# Altium schematic symbol library Audio Prj_1.SCHLIB: 74 symbols
Pins are listed as number, name and electrical type; pins without a type are passive.

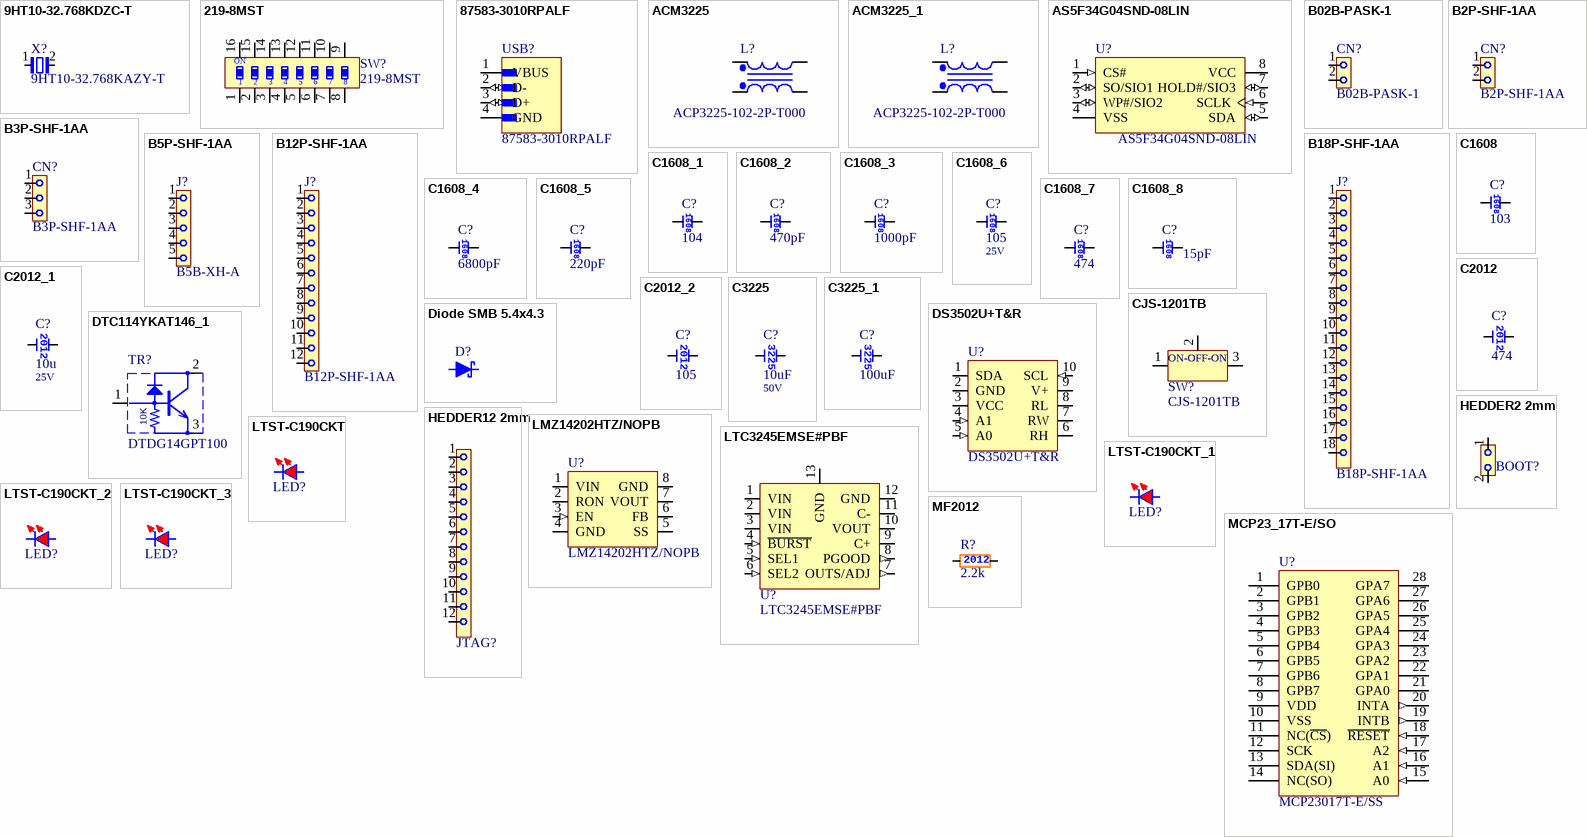
[diagram p0: symbols 9HT10-32.768KDZC-T to MF2012]

## 9HT10-32.768KDZC-T
designator X?, comment 9HT10-32.768KAZY-T
CRYSTAL 32kHz 3.2mm x 1.5mm; Vendor: TXC CORPORATION; Capacitance: 9pF; Tolerance: 20ppm; ESR: 70k
footprint 9HT10 (CRYSTAL 3.2mm x 1.5mm)
pins: 1, 2

## 219-8MST
designator SW?
SMD DIP Switch; Vendor: CTS Electrocomponents
footprint 219-8MST (Footprint not found)
pins: 1, 2, 3, 4, 5, 6, 7, 8, 9, 10, 11, 12, 13, 14, 15, 16
text: ON

## 87583-3010RPALF
designator USB?
CONN RCPT USB2.0 TYPEA 4P SMD RA; Vendor: Amphenol ICC (FCI)
footprint USB_2.0 (87583-3010RPALF)
pins: 1 VBUS (power), 2 D- (io), 3 D+ (io), 4 GND (power)

## ACM3225
designator L?, comment ACP3225-102-2P-T000
コモンモード,1A,4ピン; Vendor: TDK
footprint ACM3225
pins: 1 Sec+, 2 Sec-, 3 Pri-, 4 Pri+

## ACM3225_1
designator L?, comment ACP3225-102-2P-T000
コモンモード,1A,4ピン; Vendor: TDK
footprint ACM3225
pins: 1 Sec+, 2 Sec-, 3 Pri-, 4 Pri+

## AS5F34G04SND-08LIN
designator U?
IC FLASH 4GBIT SPI/QUAD I/O 8LGA; Vendor: Alliance Memory, Inc.
footprint 8LGA(6x8)
pins: 1 CS# (in), 2 SO/SIO1 (io), 3 WP#/SIO2 (io), 4 VSS (power), 5 SDA (io), 6 SCLK (in), 7 HOLD#/SIO3 (io), 8 VCC (power)

## B02B-PASK-1
designator CN?
雄,ストレート,1列2ピン; Vendor: JST
footprint B02B-PASK-1
pins: 1, 2

## B2P-SHF-1AA
designator CN?
雄,ストレート,1列2ピン; Vendor: JST
footprint B2P-SHF-1AA
pins: 1, 2

## B3P-SHF-1AA
designator CN?
雄,ストレート,1列3ピン; Vendor: JST
footprint B3P-SHF-1AA (JST3ƒsƒ“ƒRƒlƒNƒ^)
pins: 1, 2, 3

## B5P-SHF-1AA
designator J?, comment B5B-XH-A
雄,ストレート,1列3ピン; Vendor: JST
footprint B5P-SHF-1AA (JST3ƒsƒ“ƒRƒlƒNƒ^)
pins: 1, 2, 3, 4, 5

## B12P-SHF-1AA
designator J?
雄,ストレート,1列12ピン PCB; Vendor: JST
footprint B12P-SHF-1AA (JST3ƒsƒ“ƒRƒlƒNƒ^)
pins: 1, 2, 3, 4, 5, 6, 7, 8, 9, 10, 11, 12

## B18P-SHF-1AA
designator J?
雄,ストレート,1列12ピン PCB; Vendor: JST
footprint B18P-SHF-1AA (JST3ƒsƒ“ƒRƒlƒNƒ^)
pins: 1, 2, 3, 4, 5, 6, 7, 8, 9, 10, 11, 12, 13, 14, 15, 16, 17, 18

## C1608
designator C?, comment Tag: 103  (hidden comment: GCD188R71H103KA01D)
セラコン1608サイズ; Vendor: Murata; Voltage: 50V
footprint C1608
pins: 1, 2
text: 1608

## C1608_1
designator C?, comment Tag: 104  (hidden comment: CGA3E2X7R1H104K080AA)
セラコン1608サイズ; Vendor: TDK; Voltage: 50V
footprint C1608
pins: 1, 2
text: 1608

## C1608_2
designator C?, comment Tag: 470pF  (hidden comment: GCM1885C2A471JA16D)
セラコン1608サイズ; Vendor: Murata; Voltage: 100V
footprint C1608
pins: 1, 2
text: 1608

## C1608_3
designator C?, comment Tag: 1000pF  (hidden comment: GCM1885C2A102JA16D)
セラコン1608サイズ; Vendor: Murata; Voltage: 100V
footprint C1608
pins: 1, 2
text: 1608

## C1608_4
designator C?, comment Tag: 6800pF  (hidden comment: GCM1885C2A682JA16D)
セラコン1608サイズ; Vendor: Murata; Voltage: 100V
footprint C1608
pins: 1, 2
text: 1608

## C1608_5
designator C?, comment Tag: 220pF  (hidden comment: GCM1885C2A221JA16D)
セラコン1608サイズ; Vendor: Murata; Voltage: 100V
footprint C1608
pins: 1, 2
text: 1608

## C1608_6
designator C?, comment Tag: 105  Voltage: 25V  (hidden comment: TMK107BJ105MA-T)
セラコン1608サイズ; Vendor: TaiyoYuden
footprint C1608
pins: 1, 2
text: 1608

## C1608_7
designator C?, comment Tag: 474  (hidden comment: UMK107B7474KA-TR)
セラコン1608サイズ; Vendor: TiyoYuden; Voltage: 25V
footprint C1608
pins: 1, 2
text: 1608

## C1608_8
designator C?, comment Tag: 15pF  (hidden comment: GCM1885C2A150FA16D)
セラコン1608サイズ; Vendor: Murata; Voltage: 100V
footprint C1608
pins: 1, 2
text: 1608

## C2012
designator C?, comment Tag: 474  (hidden comment: GRM21BR71H474MA88)
セラコン2012サイズ; Vendor: Murata; Voltage: 50V
footprint C2012
pins: 1, 2
text: 2012

## C2012_1
designator C?, comment Tag: 10u  Voltage: 25V  (hidden comment: TMK212BBJ106MG-T)
セラコン2012サイズ; Vendor: Murata
footprint C2012
pins: 1, 2
text: 2012

## C2012_2
designator C?, comment Tag: 105  (hidden comment: GRM21BR71C105KA01K)
セラコン2012サイズ; Vendor: Murata; Voltage: 16V
footprint C2012
pins: 1, 2
text: 2012

## C3225
designator C?, comment Tag: 10uF  Voltage: 50V  (hidden comment: UMK325C7106MM-T)
セラコン3225サイズ; Vendor: *
footprint C3225 (Footprint not found)
pins: 1, 2
text: 3225

## C3225_1
designator C?, comment Tag: 100uF  (hidden comment: EMK325ABJ107MM-T)
セラコン3225サイズ; Vendor: TaiyoYuden; Voltage: 50V
footprint C3225 (Footprint not found)
pins: 1, 2
text: 3225

## CJS-1201TB
designator SW?
SWITCH SLIDE SPDT 100MA 6V; Vendor: Nidec Copal Electronics
footprint Slide Switch SPDT (6x4.2mm(LxW))
pins: 1, 2, 3
text: ON-OFF-ON

## Diode SMB 5.4x4.3
designator D?, comment SIPS3150U  (value not drawn)
Schottky Rectifier; Vendor: STmicro; Voltage: 150V; Current: 3A
footprint DO-214AA (SMB)
pins: A, K

## DS3502U+T&R
designator U?
IC DGTL POT 10KOHM 128TAP 10UMAX; Vendor: Maxim Integrated
footprint MSOP10 (Shrink Small Outline; 10 Leads; Body Width 3 mm; Pitch 0.5 mm)
pins: 1 SDA (io), 2 GND (power), 3 VCC (power), 4 A1 (in), 5 A0 (in), 6 RH, 7 RW, 8 RL, 9 V+ (power), 10 SCL (in)

## DTC114YKAT146_1
designator TR?, comment DTDG14GPT100
NPN  TR 1A with  Resi; Vendor: ROHM ローム
footprint SOT-89-3 (SOT89, 3-Leads, Body 4.5x2.4 mm, Pitch 1.5mm, Lead Span 4.1mm)
pins: 1 IN, 2 GND, 3 OUT
text: 10K

## HEDDER2 2mm
designator BOOT?  (value not drawn)
雄,ストレート,1列2ピン; Vendor: JST
footprint HDR1X2 2mm
pins: 1, 2

## HEDDER12 2mm
designator JTAG?  (value not drawn)
Vendor: akiduki
footprint HDR1X12 2mm
pins: 1, 2, 3, 4, 5, 6, 7, 8, 9, 10, 11, 12

## LMZ14202HTZ/NOPB
designator U?
DC DC CONVERTER 5-30V; Vendor: Texas Instruments
footprint TO-PMOD-7 (0.40" L x 0.39" W  (10.2mm x 9.9mm))
pins: 1 VIN (power), 2 RON, 3 EN (in), 4 GND (power), 5 SS, 6 FB, 7 VOUT (power), 8 GND (power)

## LTC3245EMSE#PBF
designator U?
IC REG CHARG PUMP ADJ/PRG 12MSOP; Vendor: Analog Devices Inc.
footprint MSOP12 (Shrink Small Outline; 8 Leads; Body Width 3 mm; Pitch 0.65 mm)
pins: 1 VIN (power), 2 VIN (power), 3 VIN (power), 4 ~{BURST} (in), 5 SEL1 (in), 6 SEL2 (in), 7 OUTS/ADJ (out), 8 PGOOD (out), 9 C+, 10 VOUT (power), 11 C-, 12 GND (power), 13 GND (power)

## LTST-C190CKT
designator LED?, comment APT1608LSECK/J4-PRV  (value not drawn)
LED 1608 orange; Vendor: kingbright; Color: Orange
footprint LED1608
pins: A, K

## LTST-C190CKT_1
designator LED?, comment APT1608LSYCK/J3-PRV  (value not drawn)
LED 1608 yellow; Vendor: kingbright; Color: yellow
footprint LED1608
pins: A, K

## LTST-C190CKT_2
designator LED?, comment APT1608LZGCK  (value not drawn)
LED 1608 green; Vendor: kingbright; Color: green
footprint LED1608
pins: A, K

## LTST-C190CKT_3
designator LED?, comment APT1608LSECK/J3-PRV  (value not drawn)
LED 1608 RED; Vendor: kingbright; Color: Red
footprint LED1608
pins: A, K

## MCP23_17T-E/SO
designator U?, comment MCP23017T-E/SS
I/O Expander 16 SPI 10MHz 28-SOIC; Vendor: Microchip Technology
footprint SSOP28 (5.3mm Wide,0.65mm Pitch)
pins: 1 GPB0, 2 GPB1, 3 GPB2, 4 GPB3, 5 GPB4, 6 GPB5, 7 GPB6, 8 GPB7, 9 VDD (power), 10 VSS (power), 11 NC(~{CS}), 12 SCK, 13 SDA(SI), 14 NC(SO), 15 A0 (in), 16 A1 (in), 17 A2 (in), 18 ~{RESET} (in), 19 INTB (out), 20 INTA (out), 21 GPA0, 22 GPA1, 23 GPA2, 24 GPA3, 25 GPA4, 26 GPA5, 27 GPA6, 28 GPA7

## MF2012
designator R?, comment Tag: 2.2k  (hidden comment: ERJ-P08J222V)
薄膜チップ抵抗2012サイズ; Vendor: Panasonic
footprint R2012
pins: 1, 2
text: 2012

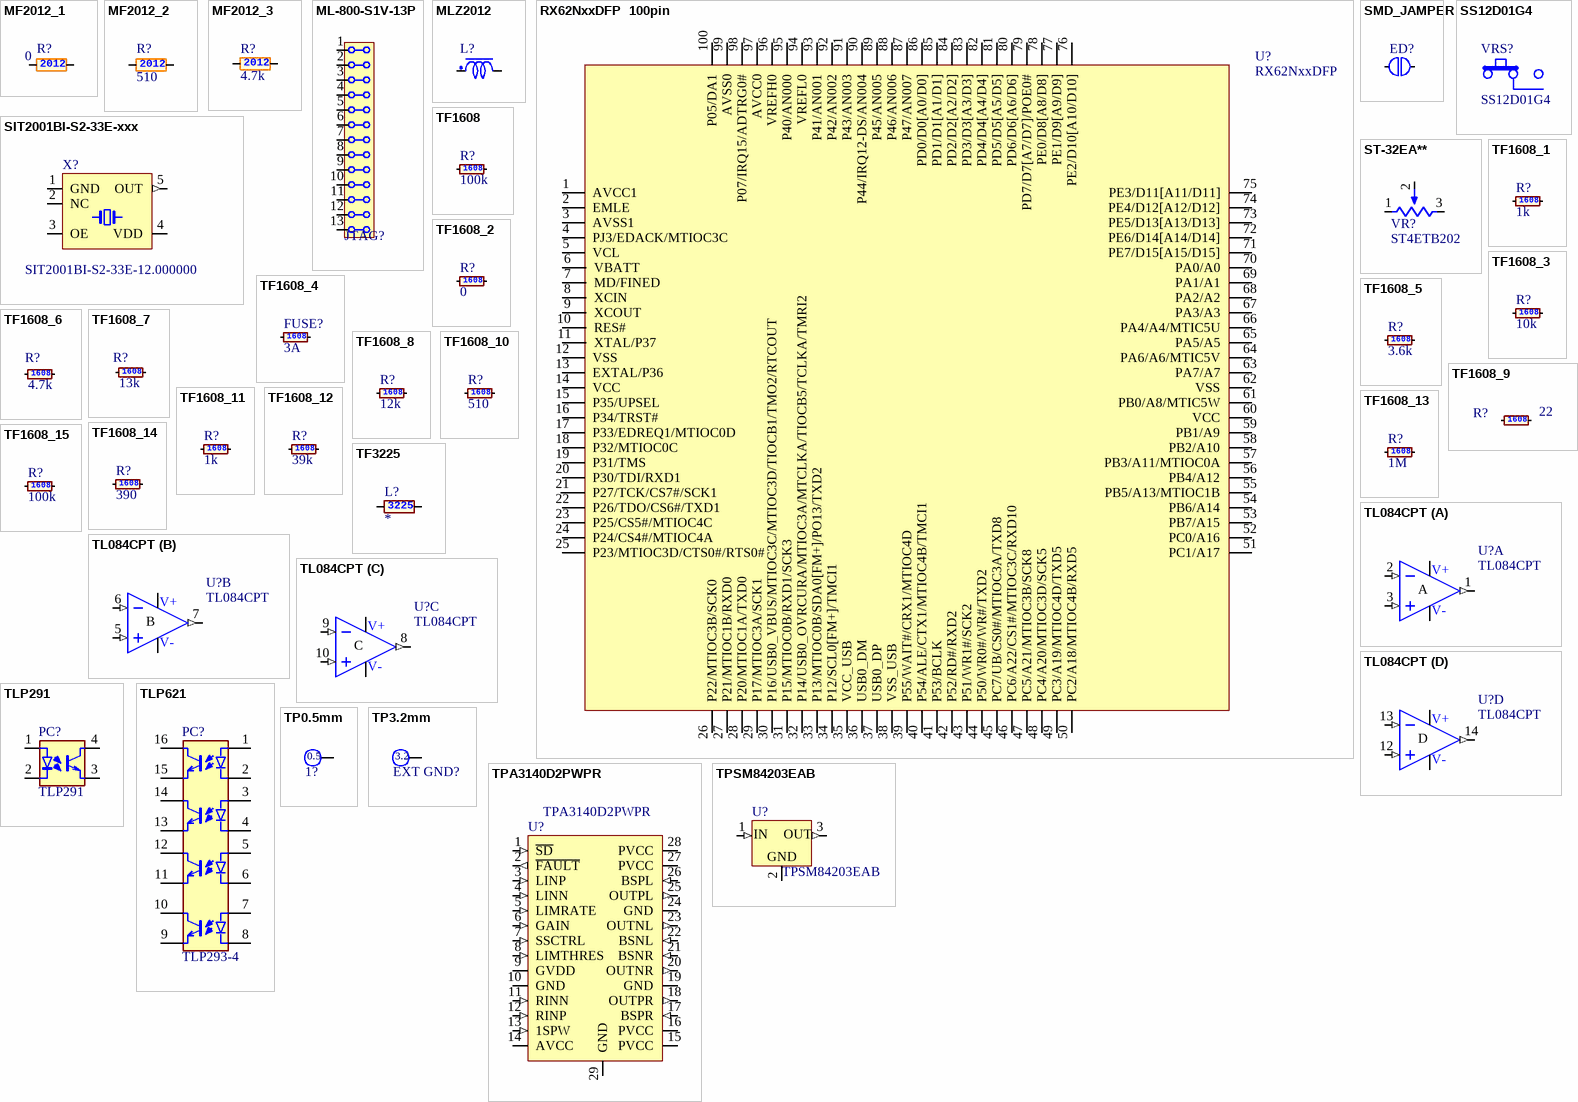
[diagram p1: symbols MF2012_1 to TPSM84203EAB]

## MF2012_1
designator R?, comment Tag: 0  (hidden comment: ERJ-6GEY0R00V)
薄膜チップ抵抗2012サイズ; Vendor: Panasonic
footprint R2012
pins: 1, 2
text: 2012

## MF2012_2
designator R?, comment Tag: 510  (hidden comment: ERJ-P08J511V)
薄膜チップ抵抗2012サイズ; Vendor: Panasonic
footprint R2012
pins: 1, 2
text: 2012

## MF2012_3
designator R?, comment Tag: 4.7k  (hidden comment: ERJ-P08J472V)
薄膜チップ抵抗2012サイズ; Vendor: Panasonic
footprint R2012
pins: 1, 2
text: 2012

## ML-800-S1V-13P
designator JTAG?, comment 5mm  (value not drawn)
ML-800-S1V-13P; Vendor: akiduki
footprint HDR1X12 2mm
pins: 1, 2, 3, 4, 5, 6, 7, 8, 9, 10, 11, 12, 13

## MLZ2012
designator L?, comment MLZ2012N101LT000  (value not drawn)
SMD Inductor 2012size; Vendor: TDK; Tag: 100uH
footprint R2012
pins: 1, 2

## RX62NxxDFP  100pin
designator U?, comment RX62NxxDFP
MCU; Manufactuer P/N: RX62N; Manufactuer: Renesas
footprint LQFP100 (Thin LFQFP, 100-Leads, Body 14x14mm, Pitch 0.5mm, IPC Medium Density)
pins: 1 AVCC1, 2 EMLE, 3 AVSS1, 4 PJ3/EDACK/MTIOC3C, 5 VCL, 6 VBATT, 7 MD/FINED, 8 XCIN, 9 XCOUT, 10 RES#, 11 XTAL/P37, 12 VSS, 13 EXTAL/P36, 14 VCC, 15 P35/UPSEL, 16 P34/TRST#, 17 P33/EDREQ1/MTIOC0D, 18 P32/MTIOC0C, 19 P31/TMS, 20 P30/TDI/RXD1, 21 P27/TCK/CS7#/SCK1, 22 P26/TDO/CS6#/TXD1, 23 P25/CS5#/MTIOC4C, 24 P24/CS4#/MTIOC4A, 25 P23/MTIOC3D/CTS0#/RTS0#, 26 P22/MTIOC3B/SCK0, 27 P21/MTIOC1B/RXD0, 28 P20/MTIOC1A/TXD0, 29 P17/MTIOC3A/SCK1, 30 P16/USB0_VBUS/MTIOC3C/MTIOC3D/TIOCB1/TMO2/RTCOUT, 31 P15/MTIOC0B/RXD1/SCK3, 32 P14/USB0_OVRCURA/MTIOC3A/MTCLKA/TIOCB5/TCLKA/TMRI2, 33 P13/MTIOC0B/SDA0[FM+]/PO13/TXD2, 34 P12/SCL0[FM+]/TMCI1, 35 VCC_USB, 36 USB0_DM, 37 USB0_DP, 38 VSS_USB, 39 P55/WAIT#/CRX1/MTIOC4D, 40 P54/ALE/CTX1/MTIOC4B/TMCI1, 41 P53/BCLK, 42 P52/RD#/RXD2, 43 P51/WR1#/SCK2, 44 P50/WR0#/WR#/TXD2, 45 PC7/UB/CS0#/MTIOC3A/TXD8, 46 PC6/A22/CS1#/MTIOC3C/RXD10, 47 PC5/A21/MTIOC3B/SCK8, 48 PC4/A20/MTIOC3D/SCK5, 49 PC3/A19/MTIOC4D/TXD5, 50 PC2/A18/MTIOC4B/RXD5, 51 PC1/A17, 52 PC0/A16, 53 PB7/A15, 54 PB6/A14, 55 PB5/A13/MTIOC1B, 56 PB4/A12, 57 PB3/A11/MTIOC0A, 58 PB2/A10, 59 PB1/A9, 60 VCC, 61 PB0/A8/MTIC5W, 62 VSS, 63 PA7/A7, 64 PA6/A6/MTIC5V, 65 PA5/A5, 66 PA4/A4/MTIC5U, 67 PA3/A3, 68 PA2/A2, 69 PA1/A1, 70 PA0/A0, 71 PE7/D15[A15/D15], 72 PE6/D14[A14/D14], 73 PE5/D13[A13/D13], 74 PE4/D12[A12/D12], 75 PE3/D11[A11/D11], 76 PE2/D10[A10/D10], 77 PE1/D9[A9/D9], 78 PE0/D8[A8/D8], 79 PD7/D7[A7/D7]/POE0#, 80 PD6/D6[A6/D6], 81 PD5/D5[A5/D5], 82 PD4/D4[A4/D4], 83 PD3/D3[A3/D3], 84 PD2/D2[A2/D2], 85 PD1/D1[A1/D1], 86 PD0/D0[A0/D0], 87 P47/AN007, 88 P46/AN006, 89 P45/AN005, 90 P44/IRQ12-DS/AN004, 91 P43/AN003, 92 P42/AN002, 93 P41/AN001, 94 VREFL0, 95 P40/AN000, 96 VREFH0, 97 AVCC0, 98 P07/IRQ15/ADTRG0#, 99 AVSS0, 100 P05/DA1
2 alternate drawings of the same symbol

## SIT2001BI-S2-33E-xxx
designator X?, comment SIT2001BI-S2-33E-12.000000
OSC MEMS ＳＯＴ－２３－５; Vendor: SiTime; Stability: 25ppm
footprint SOT-23-5
pins: 1 GND (power), 2 NC, 3 OE, 4 VDD (power), 5 OUT (out)

## SMD_JAMPER
designator ED?  (value not drawn)  (no BOM)
footprint SMD_JAMPER -Cut
pins: 1, 2

## SS12D01G4
designator VRS?
SPDTスライドスイッチ; Vendor: 秋月¦
footprint SS12D01G4 (YAMANE SW Pitch 2.5mm)
pins: 1, 2, 3

## ST-32EA**
designator VR?, comment ST4ETB202
CERMET TRIMMER  Top adjustmet; Vendor: Copal; Tag: ***
footprint ST4ETB202 (TRIMMER 2K OHM 0.25W GW TOP ADJ)
pins: 1, 2, 3

## TF1608
designator R?, comment Tag: 100k  (hidden comment: ERJ-PA3F1003V)
厚膜チップ抵抗1608サイズ; Vendor: Panasonic
footprint R1608
pins: 1, 2
text: 1608

## TF1608_1
designator R?, comment Tag: 1k  (hidden comment: ERJ-PA3F1000V)
厚膜チップ抵抗1608サイズ; Vendor: Panasonic
footprint R1608
pins: 1, 2
text: 1608

## TF1608_2
designator R?, comment Tag: 0  (hidden comment: ERJ-S030R00V)
厚膜チップ抵抗1608サイズ; Vendor: Panasonic
footprint R1608
pins: 1, 2
text: 1608

## TF1608_3
designator R?, comment Tag: 10k  (hidden comment: ERJ-PA3F1002V)
厚膜チップ抵抗1608サイズ; Vendor: Panasonic
footprint R1608
pins: 1, 2
text: 1608

## TF1608_4
designator FUSE?, comment Tag: 3A  (hidden comment: ERB-RE3R00V)
3A 1608サイズ; Vendor: Panasonic
footprint R1608
pins: 1, 2
text: 1608

## TF1608_5
designator R?, comment Tag: 3.6k  (hidden comment: ERJ-PA3F3601V)
厚膜チップ抵抗1608サイズ; Vendor: Panasonic
footprint R1608
pins: 1, 2
text: 1608

## TF1608_6
designator R?, comment Tag: 4.7k  (hidden comment: ERJ-PA3F4701V)
厚膜チップ抵抗1608サイズ; Vendor: Panasonic
footprint R1608
pins: 1, 2
text: 1608

## TF1608_7
designator R?, comment Tag: 13k  (hidden comment: ERJ-PA3F1302V)
厚膜チップ抵抗1608サイズ; Vendor: Panasonic
footprint R1608
pins: 1, 2
text: 1608

## TF1608_8
designator R?, comment Tag: 12k  (hidden comment: ERJ-PA3F1201V)
厚膜チップ抵抗1608サイズ; Vendor: Panasonic
footprint R1608
pins: 1, 2
text: 1608

## TF1608_9
designator R?, comment Tag: 22  (hidden comment: ERJ-PA3F22R0V)
厚膜チップ抵抗1608サイズ; Vendor: Panasonic
footprint R1608
pins: 1, 2
text: 1608

## TF1608_10
designator R?, comment Tag: 510  (hidden comment: ERJ-PA3F5100V)
厚膜チップ抵抗1608サイズ; Vendor: Panasonic
footprint R1608
pins: 1, 2
text: 1608

## TF1608_11
designator R?, comment Tag: 1k  (hidden comment: ERJ-PA3F1001V)
厚膜チップ抵抗1608サイズ; Vendor: Panasonic
footprint R1608
pins: 1, 2
text: 1608

## TF1608_12
designator R?, comment Tag: 39k  (hidden comment: ERJ-PA3F3902V)
厚膜チップ抵抗1608サイズ; Vendor: Panasonic
footprint R1608
pins: 1, 2
text: 1608

## TF1608_13
designator R?, comment Tag: 1M  (hidden comment: ERJ-PA3F1004V)
厚膜チップ抵抗1608サイズ; Vendor: Panasonic
footprint R1608
pins: 1, 2
text: 1608

## TF1608_14
designator R?, comment Tag: 390  (hidden comment: ERJ-PA3F3900V)
厚膜チップ抵抗1608サイズ; Vendor: Panasonic
footprint R1608
pins: 1, 2
text: 1608

## TF1608_15
designator R?, comment Tag: 100k  (hidden comment: ERJ-PA3F1501V)
厚膜チップ抵抗1608サイズ; Vendor: Panasonic
footprint R1608
pins: 1, 2
text: 1608

## TF3225
designator L?  (value not drawn)
厚膜チップ抵抗3225サイズ; Vendor: *; Tag: *
footprint R3225
pins: 1, 2
text: 3225

## TL084CPT
designator U?
IC OPAMP JFET 4 CIRCUIT 14TSSOP; Vendor: Texas Instruments
footprint TSSOP14 (4.4mm Wide,0.65mm Pitch)
pins on every part: 4 V+ (power), 11 V- (power)
part A pins: 1 OUT (out), 2 IN- (in), 3 IN+ (in)
part B pins: 5 IN+ (in), 6 IN- (in), 7 OUT (out)
part C pins: 8 OUT (out), 9 IN- (in), 10 IN+ (in)
part D pins: 12 IN+ (in), 13 IN- (in), 14 OUT (out)
part A text: A
part B text: B
part C text: C
part D text: D

## TLP291
designator PC?
PHOTOCOUPLER 1ch; Vendor: TOSHIBA
footprint SOP4 (4-Leads, Body 4.4x2.6mm, Pitch 1.27mm)
pins: 1 A-LED, 2 K-LED, 3 E, 4 C

## TLP621
designator PC?, comment TLP293-4
4 Channel 16-SO; Vendor: Toshiba
footprint SO16 (5.3mm Wide,0.65mm Pitch)
pins: 1 A-LED, 2 K-LED, 3 A-LED, 4 K-LED, 5 A-LED, 6 K-LED, 7 A-LED, 8 K-LED, 9 E, 10 C, 11 E, 12 C, 13 E, 14 C, 15 E, 16 C

## TP0.5mm
designator 1?  (value not drawn)  (no BOM)
Test-Point 0.5mm
footprint TP0.5mm (Footprint not found)
pins: 1
text: 0.5

## TP3.2mm
designator EXT GND?  (value not drawn)  (no BOM)
Test-Point 3.2mm
footprint TP3.2mm (TEST POINT 3.2mm)
pins: 1
text: 3.2

## TPA3140D2PWPR
designator U?
IC AMP CLASS D STER 10W 28HTSSOP; Vendor: Texas Instruments
footprint TSSOP28
pins: 1 ~{SD} (in), 2 ~{FAULT} (out), 3 LINP (in), 4 LINN (in), 5 LIMRATE (in), 6 GAIN (in), 7 SSCTRL (in), 8 LIMTHRES (in), 9 GVDD (power), 10 GND (power), 11 RINN (in), 12 RINP (in), 13 1SPW (in), 14 AVCC (power), 15 PVCC (power), 16 PVCC (power), 17 BSPR (in), 18 OUTPR (out), 19 GND (power), 20 OUTNR (out), 21 BSNR (in), 22 BSNL (in), 23 OUTNL (out), 24 GND (power), 25 OUTPL (out), 26 BSPL (in), 27 PVCC (power), 28 PVCC (power), 29 GND (power)

## TPSM84203EAB
designator U?
DC DC CONVERTER 3.3V; Vendor: Texas Instruments
footprint TO220-3 (ƒXƒgƒŒ[ƒgƒŠ[ƒh)
pins: 1 IN (in) "The ground return", 2 GND (power) "Analog input.", 3 OUT (out) "Chip select"